# Altium integrated library Digital Power Board Rev2.IntLib: 56 symbols
Pins are listed as number, name and electrical type; pins without a type are passive.

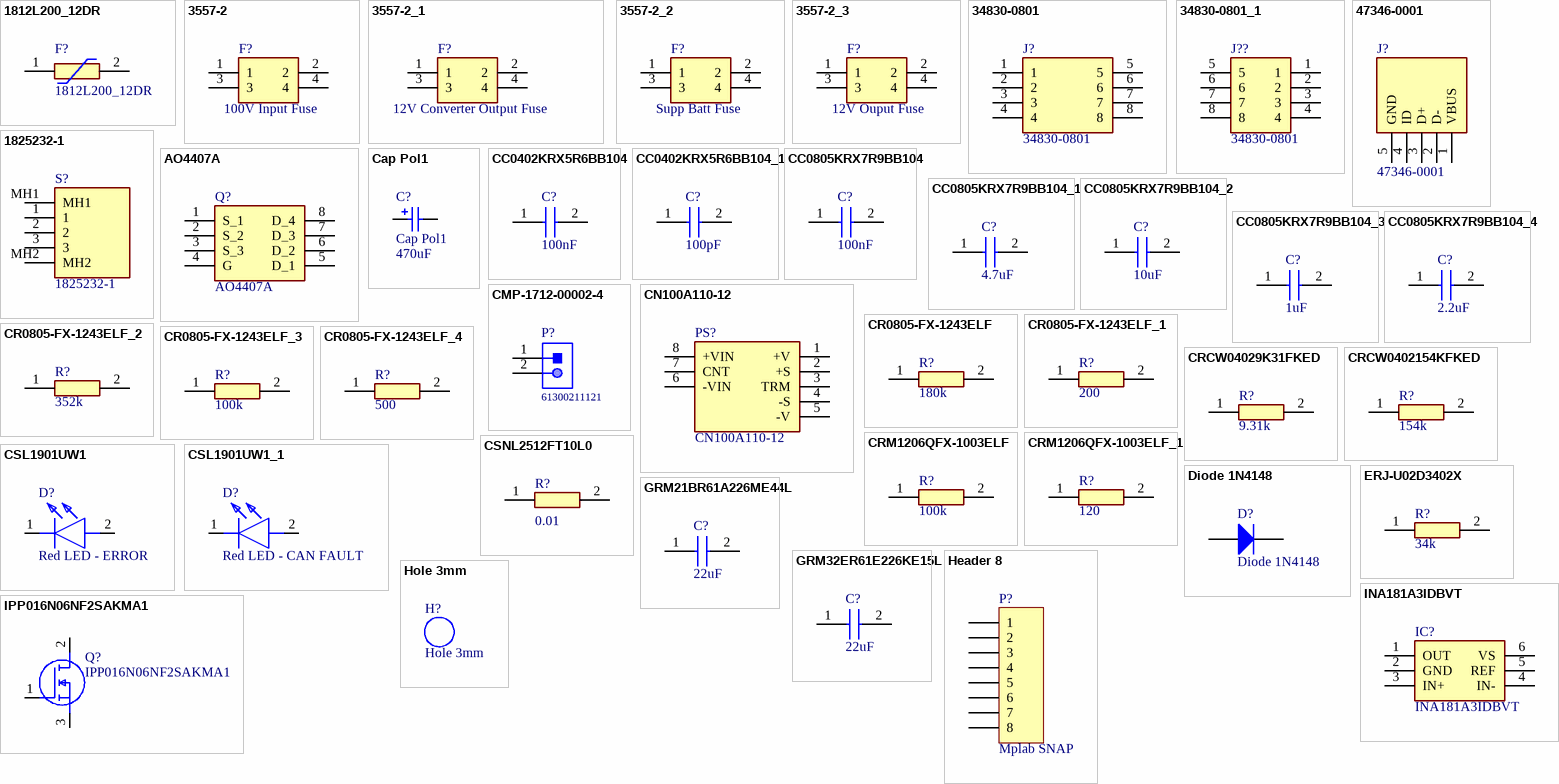
[diagram p0: symbols 1812L200_12DR to IPP016N06NF2SAKMA1]

## 1812L200_12DR
designator F?
C209723 Resettable Fuse; Manufacturer_Name: LITTELFUSE; Manufacturer_Part_Number: 1812L200/12DR; Datasheet Link: http://www.littelfuse.com/~/media/electronics/datasheets/resettable_ptcs/littelfuse_ptc_1812l_datasheet.pdf.pdf; Height: 1.25mm; Mouser Part Number: 576-1812L200/12DR; Mouser Price/Stock: https://www.mouser.co.uk/ProductDetail/Littelfuse/1812L200-12DR?qs=Vv6sT79n3zRLU3%252BVqAw1nQ%3D%3D; Arrow Part Number: 1812L200/12DR; Arrow Price/Stock: https://www.arrow.com/en/products/1812l20012dr/littelfuse?region=nac
footprint 1812L010DR
pins: 1, 2

## 3557-2
designator F?, comment 100V Input Fuse
3557-2 Fuse Holder; Manufacturer_Name: Keystone Electronics; Datasheet Link: http://www.keyelco.com/product-pdf.cfm?p=296; Manufacturer_Part_Number: 3557-2; Mouser Part Number: 534-3557-2; Mouser Price/Stock: https://www.mouser.co.uk/ProductDetail/Keystone-Electronics/3557-2?qs=cxy41lVAGV%2FfbyASjpXK1g%3D%3D; Arrow Part Number: 3557-2; Arrow Price/Stock: https://www.arrow.com/en/products/3557-2/keystone-electronics?region=europe
footprint 3557-2
pins: 1, 2, 3, 4

## 3557-2_1
designator F?, comment 12V Converter Output Fuse
3557-2 Fuse Holder; Manufacturer_Name: Keystone Electronics; Datasheet Link: http://www.keyelco.com/product-pdf.cfm?p=296; Manufacturer_Part_Number: 3557-2; Mouser Part Number: 534-3557-2; Mouser Price/Stock: https://www.mouser.co.uk/ProductDetail/Keystone-Electronics/3557-2?qs=cxy41lVAGV%2FfbyASjpXK1g%3D%3D; Arrow Part Number: 3557-2; Arrow Price/Stock: https://www.arrow.com/en/products/3557-2/keystone-electronics?region=europe
footprint 3557-2
pins: 1, 2, 3, 4

## 3557-2_2
designator F?, comment Supp Batt Fuse
Connector; Manufacturer_Name: Keystone Electronics; Manufacturer_Part_Number: 3557-2; Datasheet Link: http://www.keyelco.com/product-pdf.cfm?p=296; Mouser Part Number: 534-3557-2; Mouser Price/Stock: https://www.mouser.co.uk/ProductDetail/Keystone-Electronics/3557-2?qs=cxy41lVAGV%2FfbyASjpXK1g%3D%3D; Arrow Part Number: 3557-2; Arrow Price/Stock: https://www.arrow.com/en/products/3557-2/keystone-electronics?region=europe
footprint 3557-2
pins: 1, 2, 3, 4

## 3557-2_3
designator F?, comment 12V Ouput Fuse
Connector; Manufacturer_Name: Keystone Electronics; Manufacturer_Part_Number: 3557-2; Datasheet Link: http://www.keyelco.com/product-pdf.cfm?p=296; Mouser Part Number: 534-3557-2; Mouser Price/Stock: https://www.mouser.co.uk/ProductDetail/Keystone-Electronics/3557-2?qs=cxy41lVAGV%2FfbyASjpXK1g%3D%3D; Arrow Part Number: 3557-2; Arrow Price/Stock: https://www.arrow.com/en/products/3557-2/keystone-electronics?region=europe
footprint 3557-2
pins: 1, 2, 3, 4

## 34830-0801
designator J?
Connector Header Through Hole, Right Angle 8 position 0.138 (3.50mm); MF: Molex; Check_prices: https://www.snapeda.com/parts/34830-0801/Molex/view-part/?ref=eda; Value: *; Availability: In Stock; MP: 34830-0801; Price: None; Package: None; SnapEDA_Link: https://www.snapeda.com/parts/34830-0801/Molex/view-part/?ref=snap; Purchase-URL: https://pricing.snapeda.com/search/part/34830-0801/?ref=eda
footprint MOLEX_34830-0801
pins: 1, 2, 3, 4, 5, 6, 7, 8

## 34830-0801_1
designator J??, comment 34830-0801
Connector; Manufacturer_Name: Molex; Datasheet Link: https://www.mouser.com/datasheet/2/276/0348300801_PCB_HEADERS-693677.pdf; Height: 25.88mm; Manufacturer_Part_Number: 34830-0801; Mouser Part Number: 538-34830-0801; Mouser Price/Stock: https://www.mouser.co.uk/ProductDetail/Molex/34830-0801?qs=PdnAIJ6Mlf2HM0lerKt%252BjA%3D%3D
footprint 348300801
pins: 1, 2, 3, 4, 5, 6, 7, 8

## 47346-0001
designator J?
C132560; Manufacturer_Name: Molex; Datasheet Link: http://www.molex.com/pdm_docs/sd/473460001_sd.pdf; Manufacturer_Part_Number: 47346-0001; Mouser Part Number: 538-47346-0001; Mouser Price/Stock: https://www.mouser.co.uk/ProductDetail/Molex/47346-0001?qs=c2CV6XM0DweJBWaSeyWeCw%3D%3D
footprint 47346-0001
pins: 1 VBUS, 2 D-, 3 D+, 4 ID, 5 GND

## 1825232-1
designator S?
Switch; Manufacturer_Name: TE Connectivity; Datasheet Link: https://componentsearchengine.com/Datasheets/1/1825232-1.pdf; Height: 3.7mm; Manufacturer_Part_Number: 1825232-1; Mouser Part Number: 655-1825232-1; Mouser Price/Stock: https://www.mouser.co.uk/ProductDetail/TE-Connectivity-PB/1825232-1?qs=kTKVN3NWb5FosGxaNC1%252BtA%3D%3D; Arrow Part Number: 1825232-1; Arrow Price/Stock: https://www.arrow.com/en/products/1825232-1/te-connectivity?region=europe
footprint 18252321
pins: 1, 2, 3, MH1, MH2

## AO4407A
designator Q?
C16072; Manufacturer_Name: Alpha & Omega Semiconductors; Datasheet Link: http://aosmd.com/res/data_sheets/AO4407A.pdf; Height: 1.75mm; Manufacturer_Part_Number: AO4407A; Arrow Part Number: AO4407A; Arrow Price/Stock: https://www.arrow.com/en/products/ao4407a/alpha-and-omega-semiconductor?region=nac
footprint SOIC127P600X175-8N
pins: 1 S_1, 2 S_2, 3 S_3, 4 G, 5 D_1, 6 D_2, 7 D_3, 8 D_4

## Cap Pol1
designator C?  value 470uF
Polarized Capacitor (Radial); Published: 8-Jun-2000; LatestRevisionDate: 17-Jul-2002; LatestRevisionNote: Re-released for DXP Platform.; PackageReference: RB7.6-15; Publisher: Altium Limited; PackageDescription: Polarized Capacitor (Radial); 2 Leads
footprint RB7.6-15 (Polarized Capacitor (Radial); 2 Leads)
simulation model CAP (Capacitor)
signal-integrity model Cap Pol
footprint CAPPRD750W80D1600H2700
pins: 1, 2
1 alternate drawing of the same symbol

## CC0402KRX5R6BB104
designator C?, comment 100nF
C129131; Manufacturer_Name: KEMET; Manufacturer_Part_Number: CC0402KRX5R6BB104; Datasheet Link: https://datasheet.datasheetarchive.com/originals/distributors/Datasheets_SAMA/c9edbbb71d7164f160019236c84d742e.pdf; Height: 0.55mm; Mouser Part Number: 603-CC402KRX5R6BB104; Mouser Price/Stock: https://www.mouser.co.uk/ProductDetail/Yageo/CC0402KRX5R6BB104?qs=AgBp2OyFlx%2FuUdVgPlpdxg%3D%3D; Arrow Part Number: CC0402KRX5R6BB104; Arrow Price/Stock: https://www.arrow.com/en/products/cc0402krx5r6bb104/yageo
footprint CAPC1005X55N
pins: 1, 2

## CC0402KRX5R6BB104_1
designator C?, comment 100pF
C26409   CL05C101JB5NNNC; Manufacturer_Name: KEMET; Manufacturer_Part_Number: CC0402KRX5R6BB104; Datasheet Link: https://datasheet.datasheetarchive.com/originals/distributors/Datasheets_SAMA/c9edbbb71d7164f160019236c84d742e.pdf; Height: 0.55mm; Mouser Part Number: 603-CC402KRX5R6BB104; Mouser Price/Stock: https://www.mouser.co.uk/ProductDetail/Yageo/CC0402KRX5R6BB104?qs=AgBp2OyFlx%2FuUdVgPlpdxg%3D%3D; Arrow Part Number: CC0402KRX5R6BB104; Arrow Price/Stock: https://www.arrow.com/en/products/cc0402krx5r6bb104/yageo
footprint CAPC1005X55N
pins: 1, 2

## CC0805KRX7R9BB104
designator C?, comment 100nF
C49678   Capacitor; Manufacturer_Name: YAGEO; Manufacturer_Part_Number: CC0805KRX7R9BB104; Datasheet Link: https://www.yageo.com/upload/media/product/productsearch/datasheet/mlcc/UPY-GPHC_X7R_6.3V-to-50V_20.pdf; Height: 0.95mm; Mouser Part Number: 603-CC805KRX7R9BB104; Mouser Price/Stock: https://www.mouser.co.uk/ProductDetail/YAGEO/CC0805KRX7R9BB104?qs=vTakOoo5QyLx0lXWgVtRhQ%3D%3D; Arrow Part Number: CC0805KRX7R9BB104; Arrow Price/Stock: https://www.arrow.com/en/products/cc0805krx7r9bb104/yageo?region=europe
footprint CAPC2012X95N
pins: 1, 2

## CC0805KRX7R9BB104_1
designator C?, comment 4.7uF
C1779   Capacitor  CL21A475KAQNNNE; Manufacturer_Name: YAGEO; Manufacturer_Part_Number: CC0805KRX7R9BB104; Datasheet Link: https://www.yageo.com/upload/media/product/productsearch/datasheet/mlcc/UPY-GPHC_X7R_6.3V-to-50V_20.pdf; Height: 0.95mm; Mouser Part Number: 603-CC805KRX7R9BB104; Mouser Price/Stock: https://www.mouser.co.uk/ProductDetail/YAGEO/CC0805KRX7R9BB104?qs=vTakOoo5QyLx0lXWgVtRhQ%3D%3D; Arrow Part Number: CC0805KRX7R9BB104; Arrow Price/Stock: https://www.arrow.com/en/products/cc0805krx7r9bb104/yageo?region=europe
footprint CAPC2012X95N
pins: 1, 2

## CC0805KRX7R9BB104_2
designator C?, comment 10uF
C84416   Capacitor  GRM21BR61E106KA73L; Manufacturer_Name: YAGEO; Manufacturer_Part_Number: CC0805KRX7R9BB104; Datasheet Link: https://www.yageo.com/upload/media/product/productsearch/datasheet/mlcc/UPY-GPHC_X7R_6.3V-to-50V_20.pdf; Height: 0.95mm; Mouser Part Number: 603-CC805KRX7R9BB104; Mouser Price/Stock: https://www.mouser.co.uk/ProductDetail/YAGEO/CC0805KRX7R9BB104?qs=vTakOoo5QyLx0lXWgVtRhQ%3D%3D; Arrow Part Number: CC0805KRX7R9BB104; Arrow Price/Stock: https://www.arrow.com/en/products/cc0805krx7r9bb104/yageo?region=europe
footprint CAPC2012X95N
pins: 1, 2

## CC0805KRX7R9BB104_3
designator C?, comment 1uF
C24123   Capacitor  CL21B105KOFNNNE; Manufacturer_Name: YAGEO; Manufacturer_Part_Number: CC0805KRX7R9BB104; Datasheet Link: https://www.yageo.com/upload/media/product/productsearch/datasheet/mlcc/UPY-GPHC_X7R_6.3V-to-50V_20.pdf; Height: 0.95mm; Mouser Part Number: 603-CC805KRX7R9BB104; Mouser Price/Stock: https://www.mouser.co.uk/ProductDetail/YAGEO/CC0805KRX7R9BB104?qs=vTakOoo5QyLx0lXWgVtRhQ%3D%3D; Arrow Part Number: CC0805KRX7R9BB104; Arrow Price/Stock: https://www.arrow.com/en/products/cc0805krx7r9bb104/yageo?region=europe
footprint CAPC2012X95N
pins: 1, 2

## CC0805KRX7R9BB104_4
designator C?, comment 2.2uF
C19110   Capacitor  CL21B225KAFNNNE; Manufacturer_Name: YAGEO; Manufacturer_Part_Number: CC0805KRX7R9BB104; Datasheet Link: https://www.yageo.com/upload/media/product/productsearch/datasheet/mlcc/UPY-GPHC_X7R_6.3V-to-50V_20.pdf; Height: 0.95mm; Mouser Part Number: 603-CC805KRX7R9BB104; Mouser Price/Stock: https://www.mouser.co.uk/ProductDetail/YAGEO/CC0805KRX7R9BB104?qs=vTakOoo5QyLx0lXWgVtRhQ%3D%3D; Arrow Part Number: CC0805KRX7R9BB104; Arrow Price/Stock: https://www.arrow.com/en/products/cc0805krx7r9bb104/yageo?region=europe
footprint CAPC2012X95N
pins: 1, 2

## CMP-1712-00002-4
designator P?, comment 61300211121
THT Vertical Pin Header WR-PHD, Pitch 2.54 mm, Single Row, 2 pins; Manufacturer: Wurth Elektronik; Manufacturer: Wurth Electronics; Rated Current: 3A; Gender: Male; Withstanding Voltage: 500VAC; Working Voltage: 250VAC; Pitch: 2.54mm; Contact Resistance: 20mOhm; Pin Number: 2; Mounting Technology: THT; Orientation: Vertical; Operating Temperature: -40to105degC; Packaging: Bag; Publisher: WurthElektronik; Datasheet URL: https://katalog.we-online.de/em/datasheet/6130xx11121.pdf; Manufacturer URL: http://www.we-online.de; Row Number: Single; Package Reference: 61300211121; Part Number: 61300211121; Manufacturer Part Number: 61300211121
footprint 61300211121 (Pin Header, pitch 2.54 mm, THT, Vertical, single row, 2p)
pins: 1, 2

## CN100A110-12
designator PS?
Power Supply; Manufacturer_Name: TDK; Datasheet Link: https://product.tdk.com/system/files/dam/doc/product/power/switching-power/dc-dc-converter/catalog/cn-a110_e.pdf; Height: 13.2mm; Manufacturer_Part_Number: CN100A110-12
footprint CN50A1105CO
pins: 1 +V, 2 +S, 3 TRM, 4 -S, 5 -V, 6 -VIN, 7 CNT, 8 +VIN

## CR0805-FX-1243ELF
designator R?, comment 180k
C17501; Manufacturer_Name: Bourns; Manufacturer_Part_Number: CR0805-FX-1243ELF; Datasheet Link: https://www.bourns.com/pdfs/chpreztr.pdf; Height: 0.6mm; Mouser Part Number: 652-CR0805FX-1243ELF; Mouser Price/Stock: https://www.mouser.com/Search/Refine.aspx?Keyword=652-CR0805FX-1243ELF
footprint RESC2012X60N
pins: 1, 2

## CR0805-FX-1243ELF_1
designator R?, comment 200
C17540  RTT05101JTP; Manufacturer_Name: Bourns; Manufacturer_Part_Number: CR0805-FX-1243ELF; Datasheet Link: https://www.bourns.com/pdfs/chpreztr.pdf; Height: 0.6mm; Mouser Part Number: 652-CR0805FX-1243ELF; Mouser Price/Stock: https://www.mouser.com/Search/Refine.aspx?Keyword=652-CR0805FX-1243ELF
footprint RESC2012X60N
pins: 1, 2

## CR0805-FX-1243ELF_2
designator R?, comment 352k
C422745   0805W8F3523T5E; Manufacturer_Name: Bourns; Manufacturer_Part_Number: CR0805-FX-1243ELF; Datasheet Link: https://www.bourns.com/pdfs/chpreztr.pdf; Height: 0.6mm; Mouser Part Number: 652-CR0805FX-1243ELF; Mouser Price/Stock: https://www.mouser.com/Search/Refine.aspx?Keyword=652-CR0805FX-1243ELF
footprint RESC2012X60N
pins: 1, 2

## CR0805-FX-1243ELF_3
designator R?, comment 100k
C96346 / RC0805FR-07100KL; Manufacturer_Name: Bourns; Manufacturer_Part_Number: CR0805-FX-1243ELF; Datasheet Link: https://www.bourns.com/pdfs/chpreztr.pdf; Height: 0.6mm; Mouser Part Number: 652-CR0805FX-1243ELF; Mouser Price/Stock: https://www.mouser.com/Search/Refine.aspx?Keyword=652-CR0805FX-1243ELF
footprint RESC2012X60N
pins: 1, 2

## CR0805-FX-1243ELF_4
designator R?, comment 500
C2828857  0805W8J0102T5E; Manufacturer_Name: Bourns; Manufacturer_Part_Number: CR0805-FX-1243ELF; Datasheet Link: https://www.bourns.com/pdfs/chpreztr.pdf; Height: 0.6mm; Mouser Part Number: 652-CR0805FX-1243ELF; Mouser Price/Stock: https://www.mouser.com/Search/Refine.aspx?Keyword=652-CR0805FX-1243ELF
footprint RESC2012X60N
pins: 1, 2

## CRCW04029K31FKED
designator R?, comment 9.31k
C881302; Manufacturer_Name: Vishay; Manufacturer_Part_Number: CRCW04029K31FKED; Datasheet Link: http://www.vishay.com/docs/20035/dcrcwe3.pdf; Height: 0.4mm; Mouser Part Number: 71-CRCW0402-9.31K-E3; Mouser Price/Stock: https://www.mouser.com/Search/Refine.aspx?Keyword=71-CRCW0402-9.31K-E3
footprint RESC1005X40N
pins: 1, 2

## CRCW0402154KFKED
designator R?, comment 154k
C226791; Manufacturer_Name: Vishay; Manufacturer_Part_Number: CRCW0402154KFKED; Datasheet Link: http://www.vishay.com/docs/20035/dcrcwe3.pdf; Height: 0.4mm
footprint RESC1005X40N
pins: 1, 2

## CRM1206QFX-1003ELF
designator R?, comment 100k
C406727   Resistor; Manufacturer_Name: Bourns; Manufacturer_Part_Number: CRM1206QFX-1003ELF; Datasheet Link: http://www.bourns.com/docs/Product-Datasheets/CRM-Q.pdf; Height: 0.65mm; Mouser Part Number: 652-CRM1206QFX-1003E; Mouser Price/Stock: https://www.mouser.co.uk/ProductDetail/Bourns/CRM1206QFX-1003ELF?qs=8Wlm6%252BaMh8RndkZYFfPU1w%3D%3D; Arrow Part Number: CRM1206QFX-1003ELF; Arrow Price/Stock: https://www.arrow.com/en/products/crm1206qfx-1003elf/bourns?region=nac
footprint RESC3116X65N
pins: 1, 2

## CRM1206QFX-1003ELF_1
designator R?, comment 120
C17957  Resistor; Manufacturer_Name: Bourns; Manufacturer_Part_Number: CRM1206QFX-1003ELF; Datasheet Link: http://www.bourns.com/docs/Product-Datasheets/CRM-Q.pdf; Height: 0.65mm; Mouser Part Number: 652-CRM1206QFX-1003E; Mouser Price/Stock: https://www.mouser.co.uk/ProductDetail/Bourns/CRM1206QFX-1003ELF?qs=8Wlm6%252BaMh8RndkZYFfPU1w%3D%3D; Arrow Part Number: CRM1206QFX-1003ELF; Arrow Price/Stock: https://www.arrow.com/en/products/crm1206qfx-1003elf/bourns?region=nac
footprint RESC3116X65N
pins: 1, 2

## CSL1901UW1
designator D?, comment Red LED - ERROR
LED  C2286; Manufacturer_Name: ROHM Semiconductor; Manufacturer_Part_Number: CSL1901UW1; Datasheet Link: https://www.mouser.kr/datasheet/2/348/csl1901uw1_e-3006038.pdf; Height: 0.65mm; Mouser Part Number: 755-CSL1901UW1; Mouser Price/Stock: https://www.mouser.co.uk/ProductDetail/ROHM-Semiconductor/CSL1901UW1?qs=vvQtp7zwQdNEDNe2oY5WlQ%3D%3D
footprint CSL1901UW1
pins: 1 K, 2 A

## CSL1901UW1_1
designator D?, comment Red LED - CAN FAULT
LED  C2286; Manufacturer_Name: ROHM Semiconductor; Manufacturer_Part_Number: CSL1901UW1; Datasheet Link: https://www.mouser.kr/datasheet/2/348/csl1901uw1_e-3006038.pdf; Height: 0.65mm; Mouser Part Number: 755-CSL1901UW1; Mouser Price/Stock: https://www.mouser.co.uk/ProductDetail/ROHM-Semiconductor/CSL1901UW1?qs=vvQtp7zwQdNEDNe2oY5WlQ%3D%3D
footprint CSL1901UW1
pins: 1 K, 2 A

## CSNL2512FT10L0
designator R?, comment 0.01
Resistor; Manufacturer_Name: Stackpole Electronics; Manufacturer_Part_Number: CSNL2512FT10L0; Datasheet Link: https://cs.seielect.com/catalog/SEI-CSNL.pdf; Height: 1.45mm; Arrow Part Number: CSNL2512FT10L0; Arrow Price/Stock: https://www.arrow.com/en/products/csnl2512ft10l0/stackpole-electronics
footprint RESC6432X145N
pins: 1, 2

## Diode 1N4148
designator D?
High Conductance Fast Diode; Published: 8-Jun-2000; LatestRevisionDate: 17-Jul-2002; LatestRevisionNote: Re-released for DXP Platform.; DatasheetVersion: 1997; PackageReference: DO-35; Publisher: Altium Limited; PackageDescription: Diode, Axial; Body 3.8 x 1.9 mm (LxDia. max), Lead Dia. 0.53 mm (max); Code_JEDEC: DO-204-AH; ComponentLink1Description: Manufacturer Link; ComponentLink1URL: http://www.fairchildsemi.com/; ComponentLink2Description: Datasheet; ComponentLink2URL: http://www.fairchildsemi.com/ds/1N%2F1N4148.pdf
footprint DO-35 (Diode, Axial; Body 3.8 x 1.9 mm (LxDia. max), Lead Dia. 0.53 mm (max))
simulation model 1N4148 (DIODE)
signal-integrity model 1N4148
pins: 1 A, 2 K

## ERJ-U02D3402X
designator R?, comment 34k
C412507; Manufacturer_Name: Panasonic; Manufacturer_Part_Number: ERJ-U02D3402X; Datasheet Link: https://industrial.panasonic.com/cdbs/www-data/pdf/RDP0000/AOA0000C334.pdf; Height: 0.4mm
footprint ERJS02_U02_(0402)
pins: 1, 2

## GRM21BR61A226ME44L
designator C?, comment 22uF
C45783; Manufacturer_Name: Murata Electronics; Manufacturer_Part_Number: GRM21BR61A226ME44L; Datasheet Link: http://www.murata.com/~/media/webrenewal/support/library/catalog/products/capacitor/mlcc/c02e.pdf; Height: 1.45mm; Mouser Part Number: 81-GRM21BR61A226ME4L; Mouser Price/Stock: https://www.mouser.co.uk/ProductDetail/Murata-Electronics/GRM21BR61A226ME44L?qs=eeBpzGFlv%252B8tSfxib2AMhw%3D%3D; Arrow Part Number: GRM21BR61A226ME44L; Arrow Price/Stock: https://www.arrow.com/en/products/grm21br61a226me44l/murata-manufacturing?region=nac
footprint CAPC2012X145N
pins: 1, 2

## GRM32ER61E226KE15L
designator C?, comment 22uF
C65428; Manufacturer_Name: Murata Electronics; Manufacturer_Part_Number: GRM32ER61E226KE15L; Datasheet Link: http://psearch.en.murata.com/capacitor/product/GRM32ER71E226KE15%23.pdf; Height: 2.7mm; Mouser Part Number: 81-GRM32ER61E226KE15; Mouser Price/Stock: https://www.mouser.co.uk/ProductDetail/Murata-Electronics/GRM32ER61E226KE15L?qs=CHiu0TXTCq%252Bo%252Bcqcz70txw%3D%3D; Arrow Part Number: GRM32ER61E226KE15L; Arrow Price/Stock: https://www.arrow.com/en/products/grm32er61e226ke15l/murata-manufacturing?region=nac
footprint CAPC3225X270N
pins: 1, 2

## Header 8
designator P?, comment Mplab SNAP
Header, 8-Pin; LatestRevisionDate: 17-Jul-2002; LatestRevisionNote: Re-released for DXP Platform.; Publisher: Altium Limited
footprint HDR1X8 (Connector; Header; 8 Position)
signal-integrity model Connector
pins: 1, 2, 3, 4, 5, 6, 7, 8

## Hole 3mm
designator H?
footprint Hole 3mm (Footprint not found)

## INA181A3IDBVT
designator IC?
C129285; Manufacturer_Name: Texas Instruments; Datasheet Link: http://www.ti.com/lit/gpn/ina181; Height: 1.45mm; Manufacturer_Part_Number: INA181A3IDBVT; Mouser Part Number: 595-INA181A3IDBVT; Mouser Price/Stock: https://www.mouser.co.uk/ProductDetail/Texas-Instruments/INA181A3IDBVT?qs=5aG0NVq1C4xDYw%252BwDbhXfg%3D%3D; Arrow Part Number: INA181A3IDBVT; Arrow Price/Stock: https://www.arrow.com/en/products/ina181a3idbvt/texas-instruments?region=nac
footprint SOT95P280X145-6N
pins: 1 OUT, 2 GND, 3 IN+, 4 IN-, 5 REF, 6 VS

## IPP016N06NF2SAKMA1
designator Q?
MOSFET (N-Channel); Manufacturer_Name: Infineon; Datasheet Link: https://nl.mouser.com/datasheet/2/196/Infineon_IPP016N06NF2S_DataSheet_v02_01_EN-3084796.pdf; Height: 4.75mm; Manufacturer_Part_Number: IPP016N06NF2SAKMA1; Mouser Part Number: 726-P016N06NF2SAKMA1; Mouser Price/Stock: https://www.mouser.co.uk/ProductDetail/Infineon-Technologies/IPP016N06NF2SAKMA1?qs=vvQtp7zwQdO2%252BKgNgsNqYA%3D%3D
footprint TO254P475X1028X1996-3P
pins: 1 G, 2 D, 3 S

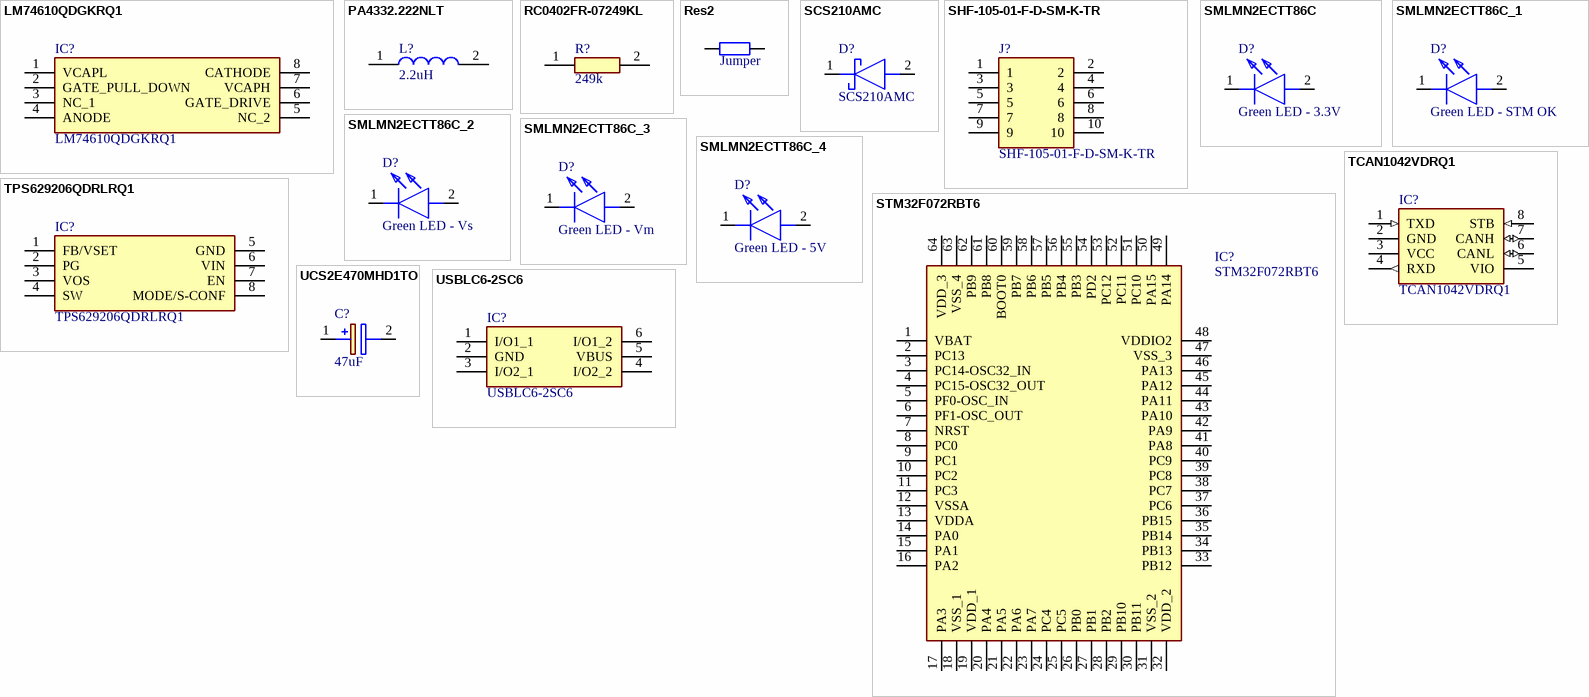
[diagram p1: symbols LM74610QDGKRQ1 to USBLC6-2SC6]

## LM74610QDGKRQ1
designator IC?
Integrated Circuit; Manufacturer_Name: Texas Instruments; Datasheet Link: http://www.ti.com/lit/gpn/lm74610-q1; Height: 1.1mm; Manufacturer_Part_Number: LM74610QDGKRQ1; Mouser Part Number: 595-LM74610QDGKRQ1; Mouser Price/Stock: https://www.mouser.co.uk/ProductDetail/Texas-Instruments/LM74610QDGKRQ1?qs=3jdCaFhktOQTVpuuubgDqg%3D%3D; Arrow Part Number: LM74610QDGKRQ1; Arrow Price/Stock: https://www.arrow.com/en/products/lm74610qdgkrq1/texas-instruments
footprint SOP65P490X110-8N
footprint Smart Diode
footprint Smart Diode
pins: 1 VCAPL, 2 GATE_PULL_DOWN, 3 NC_1, 4 ANODE, 5 NC_2, 6 GATE_DRIVE, 7 VCAPH, 8 CATHODE

## PA4332.222NLT
designator L?, comment 2.2uH
C280539; Manufacturer_Name: Pulse; Manufacturer_Part_Number: PA4332.222NLT; Datasheet Link: https://datasheet.datasheetarchive.com/originals/distributors/DKDS-10/182650.pdf; Height: 2mm; Mouser Part Number: 673-PA4332222NLT; Mouser Price/Stock: https://www.mouser.co.uk/ProductDetail/Pulse-Electronics/PA4332.222NLT?qs=%2FzQKu7YvIMbE5ttuY4d%2Fzg%3D%3D; Arrow Part Number: PA4332.222NLT; Arrow Price/Stock: https://www.arrow.com/en/products/pa4332.222nlt/pulse-electronics-corporation?region=nac
footprint LVS505040-2R2M-N
pins: 1, 2

## RC0402FR-07249KL
designator R?, comment 249k
C163476; Manufacturer_Name: KEMET; Manufacturer_Part_Number: RC0402FR-07249KL; Datasheet Link: http://www.yageo.com/documents/recent/PYu-RC0402_51_RoHS_L_6_r.pdf; Height: 0.4mm
footprint RESC1005X40N
pins: 1, 2

## Res2
designator Jump?, comment Jumper
Resistor; Published: 8-Jun-2000; LatestRevisionDate: 17-Jul-2002; LatestRevisionNote: Re-released for DXP Platform.; PackageReference: AXIAL-0.4; Publisher: Altium Limited; PackageDescription: Axial Device, Thru-Hole; 2 Leads; 0.4 in Pin Spacing
footprint AXIAL-0.4 (Axial Device, Thru-Hole; 2 Leads; 0.4 in Pin Spacing)
simulation model RESISTOR (Resistor)
signal-integrity model Res
pins: 1, 2

## SCS210AMC
designator D?
Schottky Diode; Manufacturer_Name: ROHM Semiconductor; Datasheet Link: https://componentsearchengine.com/Datasheets/2/SCS210AMC.pdf; Height: 4.7mm; Manufacturer_Part_Number: SCS210AMC; Mouser Part Number: 755-SCS210AMC; Mouser Price/Stock: https://www.mouser.co.uk/ProductDetail/ROHM-Semiconductor/SCS210AMC?qs=IDm2WsMLa1WEPB2seV%252Bn2Q%3D%3D
footprint TO508P470X1016X1905-2P
pins: 1 K, 2 A

## SHF-105-01-F-D-SM-K-TR
designator J?
Connector; Manufacturer_Name: SAMTEC; Datasheet Link: http://suddendocs.samtec.com/prints/shf-1xx-01-x-d-xx-xx-mkt.pdf; Height: 5.33mm; Manufacturer_Part_Number: SHF-105-01-F-D-SM-K-TR; Mouser Part Number: 200-SHF10501FDSMKTR; Mouser Price/Stock: https://www.mouser.co.uk/ProductDetail/Samtec/SHF-105-01-F-D-SM-K-TR?qs=%252BZP6%2F%252BtExtBfJ7cPA6PDkA%3D%3D; Arrow Part Number: SHF-105-01-F-D-SM-K-TR; Arrow Price/Stock: https://www.arrow.com/en/products/shf-105-01-f-d-sm-k-tr/samtec?region=nac
footprint SHF10501FDSMKTR
pins: 1, 2, 3, 4, 5, 6, 7, 8, 9, 10

## SMLMN2ECTT86C
designator D?, comment Green LED - 3.3V
C2297   LED; Manufacturer_Name: ROHM Semiconductor; Manufacturer_Part_Number: SMLMN2ECTT86C; Datasheet Link: https://fscdn.rohm.com/en/products/databook/datasheet/opto/led/chip_mono/sml-mn2x(c)-e.pdf; Height: 1mm; Mouser Part Number: 755-SMLMN2ECTT86C; Mouser Price/Stock: https://www.mouser.co.uk/ProductDetail/ROHM-Semiconductor/SMLMN2ECTT86C?qs=YCa%2FAAYMW03zoNRTOAxGsA%3D%3D
footprint SMLMN2ECTT86C
pins: 1 K, 2 A

## SMLMN2ECTT86C_1
designator D?, comment Green LED - STM OK
C2297   LED; Manufacturer_Name: ROHM Semiconductor; Manufacturer_Part_Number: SMLMN2ECTT86C; Datasheet Link: https://fscdn.rohm.com/en/products/databook/datasheet/opto/led/chip_mono/sml-mn2x(c)-e.pdf; Height: 1mm; Mouser Part Number: 755-SMLMN2ECTT86C; Mouser Price/Stock: https://www.mouser.co.uk/ProductDetail/ROHM-Semiconductor/SMLMN2ECTT86C?qs=YCa%2FAAYMW03zoNRTOAxGsA%3D%3D
footprint SMLMN2ECTT86C
pins: 1 K, 2 A

## SMLMN2ECTT86C_2
designator D?, comment Green LED - Vs
C2297   LED; Manufacturer_Name: ROHM Semiconductor; Manufacturer_Part_Number: SMLMN2ECTT86C; Datasheet Link: https://fscdn.rohm.com/en/products/databook/datasheet/opto/led/chip_mono/sml-mn2x(c)-e.pdf; Height: 1mm; Mouser Part Number: 755-SMLMN2ECTT86C; Mouser Price/Stock: https://www.mouser.co.uk/ProductDetail/ROHM-Semiconductor/SMLMN2ECTT86C?qs=YCa%2FAAYMW03zoNRTOAxGsA%3D%3D
footprint SMLMN2ECTT86C
pins: 1 K, 2 A

## SMLMN2ECTT86C_3
designator D?, comment Green LED - Vm
C2297   LED; Manufacturer_Name: ROHM Semiconductor; Manufacturer_Part_Number: SMLMN2ECTT86C; Datasheet Link: https://fscdn.rohm.com/en/products/databook/datasheet/opto/led/chip_mono/sml-mn2x(c)-e.pdf; Height: 1mm; Mouser Part Number: 755-SMLMN2ECTT86C; Mouser Price/Stock: https://www.mouser.co.uk/ProductDetail/ROHM-Semiconductor/SMLMN2ECTT86C?qs=YCa%2FAAYMW03zoNRTOAxGsA%3D%3D
footprint SMLMN2ECTT86C
pins: 1 K, 2 A

## SMLMN2ECTT86C_4
designator D?, comment Green LED - 5V
C2297   LED; Manufacturer_Name: ROHM Semiconductor; Manufacturer_Part_Number: SMLMN2ECTT86C; Datasheet Link: https://fscdn.rohm.com/en/products/databook/datasheet/opto/led/chip_mono/sml-mn2x(c)-e.pdf; Height: 1mm; Mouser Part Number: 755-SMLMN2ECTT86C; Mouser Price/Stock: https://www.mouser.co.uk/ProductDetail/ROHM-Semiconductor/SMLMN2ECTT86C?qs=YCa%2FAAYMW03zoNRTOAxGsA%3D%3D
footprint SMLMN2ECTT86C
pins: 1 K, 2 A

## STM32F072RBT6
designator IC?
C46046 Integrated Circuit; Manufacturer_Name: STMicroelectronics; Datasheet Link: http://www.st.com/st-web-ui/static/active/en/resource/technical/document/datasheet/DM00090510.pdf; Height: 1.6mm; Manufacturer_Part_Number: STM32F072RBT6; Mouser Part Number: 511-STM32F072RBT6; Mouser Price/Stock: https://www.mouser.co.uk/ProductDetail/STMicroelectronics/STM32F072RBT6?qs=xf9JV0PLFEcuk6sTlnutaw%3D%3D; Arrow Part Number: STM32F072RBT6; Arrow Price/Stock: https://www.arrow.com/en/products/stm32f072rbt6/stmicroelectronics
footprint QFP50P1200X1200X160-64N
pins: 1 VBAT, 2 PC13, 3 PC14-OSC32_IN, 4 PC15-OSC32_OUT, 5 PF0-OSC_IN, 6 PF1-OSC_OUT, 7 NRST, 8 PC0, 9 PC1, 10 PC2, 11 PC3, 12 VSSA, 13 VDDA, 14 PA0, 15 PA1, 16 PA2, 17 PA3, 18 VSS_1, 19 VDD_1, 20 PA4, 21 PA5, 22 PA6, 23 PA7, 24 PC4, 25 PC5, 26 PB0, 27 PB1, 28 PB2, 29 PB10, 30 PB11, 31 VSS_2, 32 VDD_2, 33 PB12, 34 PB13, 35 PB14, 36 PB15, 37 PC6, 38 PC7, 39 PC8, 40 PC9, 41 PA8, 42 PA9, 43 PA10, 44 PA11, 45 PA12, 46 PA13, 47 VSS_3, 48 VDDIO2, 49 PA14, 50 PA15, 51 PC10, 52 PC11, 53 PC12, 54 PD2, 55 PB3, 56 PB4, 57 PB5, 58 PB6, 59 PB7, 60 BOOT0, 61 PB8, 62 PB9, 63 VSS_4, 64 VDD_3

## TCAN1042VDRQ1
designator IC?
Integrated Circuit; Manufacturer_Name: Texas Instruments; Datasheet Link: http://www.ti.com/lit/ds/symlink/tcan1042-q1.pdf; Height: 1.75mm; Manufacturer_Part_Number: TCAN1042VDRQ1; Mouser Part Number: 595-TCAN1042VDRQ1; Mouser Price/Stock: https://www.mouser.co.uk/ProductDetail/Texas-Instruments/TCAN1042VDRQ1?qs=yDQnu9hAfI8tOcvXruCEuA%3D%3D; Arrow Part Number: TCAN1042VDRQ1; Arrow Price/Stock: https://www.arrow.com/en/products/tcan1042vdrq1/texas-instruments
footprint SOIC127P600X175-8N
pins: 1 TXD (in), 2 GND (power), 3 VCC (power), 4 RXD (out), 5 VIO (power), 6 CANL (io), 7 CANH (io), 8 STB (in)

## TPS629206QDRLRQ1
designator IC?
Integrated Circuit; Manufacturer_Name: Texas Instruments; Datasheet Link: https://www.ti.com/lit/gpn/TPS629206-Q1; Height: 0.6mm; Manufacturer_Part_Number: TPS629206QDRLRQ1; Mouser Part Number: 595-TPS629206QDRLRQ1; Mouser Price/Stock: https://www.mouser.co.uk/ProductDetail/Texas-Instruments/TPS629206QDRLRQ1?qs=Znm5pLBrcAKSjTz%252BzqwnCQ%3D%3D
footprint SOTFL50P160X60-8N
pins: 1 FB/VSET, 2 PG, 3 VOS, 4 SW, 5 GND, 6 VIN, 7 EN, 8 MODE/S-CONF

## UCS2E470MHD1TO
designator C?, comment 47uF
Capacitor Polarised UCS2E470MHD1TO; Manufacturer_Name: Nichicon; Datasheet Link: http://www.nichicon.co.jp/english/products/pdfs/e-ucs.pdf; Height: 22mm; Manufacturer_Part_Number: UCS2E470MHD1TO; Mouser Part Number: 647-UCS2E470MHD1TO; Mouser Price/Stock: https://www.mouser.com/Search/Refine.aspx?Keyword=647-UCS2E470MHD1TO; Arrow Part Number: UCS2E470MHD1TO; Arrow Price/Stock: https://www.arrow.com/en/products/ucs2e470mhd1to/nichicon
footprint CAPPRD500W60D1300H2200
pins: 1 +, 2 -

## USBLC6-2SC6
designator IC?
C5180249; Manufacturer_Name: STMicroelectronics; Datasheet Link: http://www.st.com/st-web-ui/static/active/en/resource/technical/document/datasheet/CD00050750.pdf; Height: 1.45mm; Manufacturer_Part_Number: USBLC6-2SC6; Mouser Part Number: 511-USBLC6-2SC6; Mouser Price/Stock: https://www.mouser.co.uk/ProductDetail/STMicroelectronics/USBLC6-2SC6?qs=po45yt2pPpu%2FhNIlwQdTlg%3D%3D; Arrow Part Number: USBLC6-2SC6; Arrow Price/Stock: https://www.arrow.com/en/products/usblc6-2sc6/stmicroelectronics?region=nac
footprint SOT95P280X145-6N
pins: 1 I/O1_1, 2 GND, 3 I/O2_1, 4 I/O2_2, 5 VBUS, 6 I/O1_2